# Altium schematic symbol library LD6815TD-36H.SchLib: 1 symbol
Pins are listed as number, name and electrical type; pins without a type are passive.

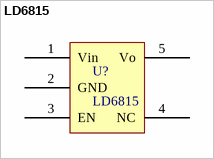
[diagram p0: symbol LD6815]

## LD6815
designator U?
pins: 1 Vin, 2 GND, 3 EN, 4 NC, 5 Vo